# Altium integrated library LM25011MY.IntLib: 1 symbol
Pins are listed as number, name and electrical type; pins without a type are passive.

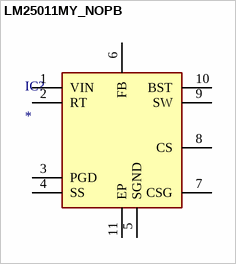
[diagram p0: symbol LM25011MY_NOPB]

## LM25011MY_NOPB
designator IC?
Integrated Circuit; Manufacturer_Name: Texas Instruments; Manufacturer_Part_Number: LM25011MY/NOPB; Description: DC-DC Converter Step-Down 42V MSOP10 EP Texas Instruments LM25011MY/NOPB; Datasheet Link: http://www.ti.com/lit/ds/symlink/lm25011.pdf; Height: 1.1mm; Mouser Part Number: 926-LM25011MY/NOPB; Mouser Price/Stock: https://www.mouser.com/Search/Refine.aspx?Keyword=926-LM25011MY%2FNOPB; RS Part Number: 9216709; RS Price/Stock: https://uk.rs-online.com/web/p/products/9216709
footprint SOP50P490X110-11N
pins: 1 VIN, 2 RT, 3 PGD, 4 SS, 5 SGND, 6 FB, 7 CSG, 8 CS, 9 SW, 10 BST, 11 EP